# Altium schematic symbol library DIODE,Array,Schottky,Series,30V,200mA,SOT23.Schlib: 1 symbol
Pins are listed as number, name and electrical type; pins without a type are passive.

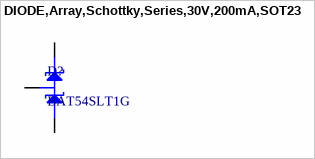
[diagram p0: symbol DIODE,Array,Schottky,Series,30V,200mA,SOT23]

## DIODE,Array,Schottky,Series,30V,200mA,SOT23
designator D?, comment BAT54SLT1G
Diode Array 1 Pair Series Connection 30 V 200mA (DC) Surface Mount TO-236-3, SC-59, SOT-23-3
pins: 1 A, 2 C, 3 C/A